# Altium footprint library generic.PcbLib: 12 footprints
Each footprint in its own frame and in the unit in brackets; x right, y up, seen from the top. Pads: shape width x height; smd on the part's side, far side on the other; paste and mask are expansions set on the pad; w line width, h text height; cw(c..) or ccw(c..) is an arc to the next point about the centre after c.
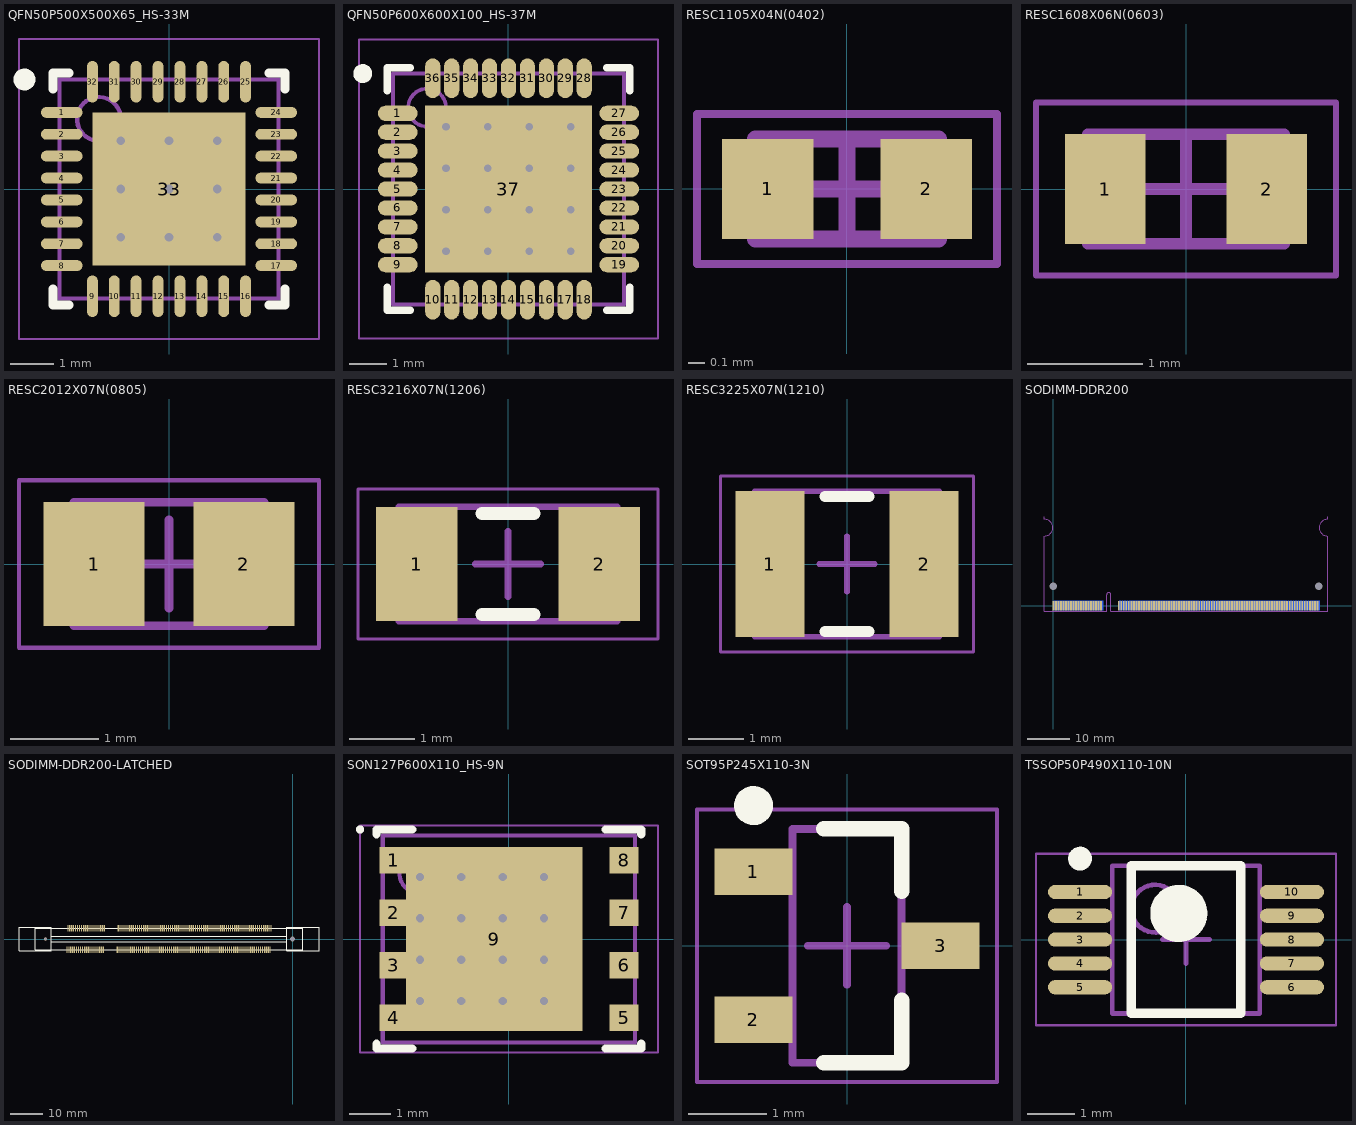
[diagram p0: the footprints below, top view; thin cyan lines are the x and y axes]

## QFN50P500X500X65_HS-33M [mm] "QFN, 32-Leads, Body 5.00x5.00mm, Pitch 0.50mm, Thermal Pad 3.50x3.50mm, IPC Low Density"
height 0.65
pads (33):
  oval 0.95x0.25 smd: 1(-2.45,1.75) 2(-2.45,1.25) 3(-2.45,0.75) 4(-2.45,0.25) 5(-2.45,-0.25) 6(-2.45,-0.75) 7(-2.45,-1.25) 8(-2.45,-1.75) 17(2.45,-1.75) 18(2.45,-1.25) 19(2.45,-0.75) 20(2.45,-0.25) 21(2.45,0.25) 22(2.45,0.75) 23(2.45,1.25) 24(2.45,1.75)
  oval 0.25x0.95 smd: 9(-1.75,-2.45) 10(-1.25,-2.45) 11(-0.75,-2.45) 12(-0.25,-2.45) 13(0.25,-2.45) 14(0.75,-2.45) 15(1.25,-2.45) 16(1.75,-2.45) 25(1.75,2.45) 26(1.25,2.45) 27(0.75,2.45) 28(0.25,2.45) 29(-0.25,2.45) 30(-0.75,2.45) 31(-1.25,2.45) 32(-1.75,2.45)
  rect 3.5x3.5 smd: 33(0,0)
via -1.1,1.1 diameter 0.5 hole 0.2
via 0,1.1 diameter 0.5 hole 0.2
via 1.1,1.1 diameter 0.5 hole 0.2
via -1.1,0 diameter 0.5 hole 0.2
via 0,0 diameter 0.5 hole 0.2
via 1.1,0 diameter 0.5 hole 0.2
via -1.1,-1.1 diameter 0.5 hole 0.2
via 0,-1.1 diameter 0.5 hole 0.2
via 1.1,-1.1 diameter 0.5 hole 0.2
Top Overlay:
  circle w0.25: c-3.3,2.5 r0.125
  lines w0.2: -2.65,-2.275 -2.65,-2.65 -2.275,-2.65 ; -2.65,2.275 -2.65,2.65 -2.275,2.65 ; 2.275,-2.65 2.65,-2.65 2.65,-2.275 ; 2.275,2.65 2.65,2.65 2.65,2.275
Mechanical 13:
  circle w0.1: c-1.6,1.6 r0.5
  lines w0.1: -2.5,-2.5 -2.5,2.5 2.5,2.5 2.5,-2.5 -2.5,-2.5
Mechanical 15:
  lines w0.05: -3.425,-3.425 -3.425,3.425 3.425,3.425 3.425,-3.425 -3.425,-3.425
  lines w0.1: -0.5,0 0.5,0 ; 0,-0.5 0,0.5
3D body "QFN50P500X500X65_HS-33M.step": height 0.65, standoff 0, extent -2.55,-2.55 2.55,2.55

## QFN50P600X600X100_HS-37M [mm] "QFN, 36-Leads, Body 6.00x6.00mm, Pitch 0.50mm, Thermal Pad 4.40x4.40mm, IPC Low Density"
height 1
pads (37):
  oval 1.05x0.4 smd: 1(-2.925,2) 2(-2.925,1.5) 3(-2.925,1) 4(-2.925,0.5) 5(-2.925,0) 6(-2.925,-0.5) 7(-2.925,-1) 8(-2.925,-1.5) 9(-2.925,-2) 19(2.925,-2) 20(2.925,-1.5) 21(2.925,-1) 22(2.925,-0.5) 23(2.925,0) 24(2.925,0.5) 25(2.925,1) 26(2.925,1.5) 27(2.925,2)
  oval 0.4x1.05 smd: 10(-2,-2.925) 11(-1.5,-2.925) 12(-1,-2.925) 13(-0.5,-2.925) 14(0,-2.925) 15(0.5,-2.925) 16(1,-2.925) 17(1.5,-2.925) 18(2,-2.925) 28(2,2.925) 29(1.5,2.925) 30(1,2.925) 31(0.5,2.925) 32(0,2.925) 33(-0.5,2.925) 34(-1,2.925) 35(-1.5,2.925) 36(-2,2.925)
  rect 4.4x4.4 smd: 37(0,0)
via -1.65,1.65 diameter 0.5 hole 0.2
via -0.55,1.65 diameter 0.5 hole 0.2
via 0.55,1.65 diameter 0.5 hole 0.2
via 1.65,1.65 diameter 0.5 hole 0.2
via -1.65,0.55 diameter 0.5 hole 0.2
via -0.55,0.55 diameter 0.5 hole 0.2
via 0.55,0.55 diameter 0.5 hole 0.2
via 1.65,0.55 diameter 0.5 hole 0.2
via -1.65,-0.55 diameter 0.5 hole 0.2
via -0.55,-0.55 diameter 0.5 hole 0.2
via 0.55,-0.55 diameter 0.5 hole 0.2
via 1.65,-0.55 diameter 0.5 hole 0.2
via -1.65,-1.65 diameter 0.5 hole 0.2
via -0.55,-1.65 diameter 0.5 hole 0.2
via 0.55,-1.65 diameter 0.5 hole 0.2
via 1.65,-1.65 diameter 0.5 hole 0.2
Top Overlay:
  circle w0.25: c-3.85,3.05 r0.125
  lines w0.2: -3.2,-2.6 -3.2,-3.2 -2.6,-3.2 ; -3.2,2.6 -3.2,3.2 -2.6,3.2 ; 2.6,-3.2 3.2,-3.2 3.2,-2.6 ; 2.6,3.2 3.2,3.2 3.2,2.6
Mechanical 13:
  circle w0.1: c-2.15,2.15 r0.5
  lines w0.1: -3.05,-3.05 -3.05,3.05 3.05,3.05 3.05,-3.05 -3.05,-3.05
Mechanical 15:
  lines w0.05: -3.95,-3.95 -3.95,3.95 3.95,3.95 3.95,-3.95 -3.95,-3.95
  lines w0.1: -0.5,0 0.5,0 ; 0,-0.5 0,0.5
3D body: height 1, standoff 0.05, extent -3.05,-3.05 3.05,3.05

## RESC1105X04N(0402) [mm] "Chip Resistor, 2-Leads, Body 1.05x0.54mm, IPC Medium Density"
height 0.4
pads (2):
  rect 0.55x0.6 smd: 1(-0.475,0) 2(0.475,0)
Mechanical 13:
  lines w0.1: -0.55,-0.3 0.55,-0.3 0.55,0.3 -0.55,0.3 -0.55,-0.3
Mechanical 15:
  lines w0.05: -0.9,-0.45 0.9,-0.45 0.9,0.45 -0.9,0.45 -0.9,-0.45
  lines w0.1: -0.3,0 0.3,0 ; 0,-0.3 0,0.3
3D body: height 0.4, standoff 0, extent 0.35,-0.3 0.55,0.3
3D body: height 0.4, standoff 0, extent -0.55,-0.3 -0.35,0.3
3D body: height 0.4, standoff 0, extent -0.35,-0.3 0.35,0.3

## RESC1608X06N(0603) [mm] "Chip Resistor, 2-Leads, Body 1.60x0.82mm, IPC Medium Density"
height 0.6
pads (2):
  rect 0.7x0.95 smd: 1(-0.7,0) 2(0.7,0)
Mechanical 13:
  lines w0.1: -0.85,-0.475 0.85,-0.475 0.85,0.475 -0.85,0.475 -0.85,-0.475
Mechanical 15:
  lines w0.05: -1.3,-0.75 1.3,-0.75 1.3,0.75 -1.3,0.75 -1.3,-0.75
  lines w0.1: -0.475,0 0.475,0 ; 0,-0.475 0,0.475
3D body: height 0.6, standoff 0, extent 0.57,-0.475 0.85,0.475
3D body: height 0.6, standoff 0, extent -0.85,-0.475 -0.57,0.475
3D body: height 0.6, standoff 0, extent -0.57,-0.475 0.57,0.475

## RESC2012X07N(0805) [mm] "Chip Resistor, 2-Leads, Body 2.00x1.25mm, IPC Medium Density"
height 0.65
pads (2):
  rect 1.15x1.4 smd: 1(-0.85,0) 2(0.85,0)
Mechanical 13:
  lines w0.1: -1.075,-0.7 1.075,-0.7 1.075,0.7 -1.075,0.7 -1.075,-0.7
Mechanical 15:
  lines w0.05: -1.7,-0.95 1.7,-0.95 1.7,0.95 -1.7,0.95 -1.7,-0.95
  lines w0.1: -0.5,0 0.5,0 ; 0,-0.5 0,0.5
3D body: height 0.65, standoff 0, extent 0.675,-0.7 1.075,0.7
3D body: height 0.65, standoff 0, extent -1.075,-0.7 -0.675,0.7
3D body: height 0.65, standoff 0, extent -0.675,-0.7 0.675,0.7

## RESC3216X07N(1206) [mm] "Chip Resistor, 2-Leads, Body 3.20x1.60mm, IPC Medium Density"
height 0.71
pads (2):
  rect 1.25x1.75 smd: 1(-1.4,0) 2(1.4,0)
Top Overlay:
  lines w0.2: -0.4,-0.775 0.4,-0.775 ; -0.4,0.775 0.4,0.775
Mechanical 13:
  lines w0.1: -1.675,-0.875 1.675,-0.875 1.675,0.875 -1.675,0.875 -1.675,-0.875
Mechanical 15:
  lines w0.05: -2.3,-1.15 2.3,-1.15 2.3,1.15 -2.3,1.15 -2.3,-1.15
  lines w0.1: -0.5,0 0.5,0 ; 0,-0.5 0,0.5
3D body: height 0.71, standoff 0, extent 1.175,-0.875 1.675,0.875
3D body: height 0.71, standoff 0, extent -1.675,-0.875 -1.175,0.875
3D body: height 0.71, standoff 0, extent -1.175,-0.875 1.175,0.875

## RESC3225X07N(1210) [mm] "Chip Resistor, 2-Leads, Body 3.20x2.49mm, IPC Medium Density"
height 0.71
pads (2):
  rect 1.25x2.65 smd: 1(-1.4,0) 2(1.4,0)
Top Overlay:
  lines w0.2: -0.4,-1.225 0.4,-1.225 ; -0.4,1.225 0.4,1.225
Mechanical 13:
  lines w0.1: -1.675,-1.32 -1.675,1.32 1.675,1.32 1.675,-1.32 -1.675,-1.32
Mechanical 15:
  lines w0.05: -2.3,-1.6 -2.3,1.6 2.3,1.6 2.3,-1.6 -2.3,-1.6
  lines w0.1: -0.5,0 0.5,0 ; 0,-0.5 0,0.5
3D body: height 0.71, standoff 0, extent -1.175,-1.32 1.175,1.32
3D body: height 0.71, standoff 0, extent -1.675,-1.32 -1.175,1.32
3D body: height 0.71, standoff 0, extent 1.175,-1.32 1.675,1.32

## SODIMM-DDR200 [mm]
pads (202):
  rect 0.45x2.25 smd: 1(0,0) 3(0.6,0) 5(1.2,0) 7(1.8,0) 9(2.4,0) 11(3,0) 13(3.6,0) 15(4.2,0) 17(4.8,0) 19(5.4,0) 21(6,0) 23(6.6,0) 25(7.2,0) 27(7.8,0) 29(8.4,0) 31(9,0) 33(9.6,0) 35(10.2,0) 37(10.8,0) 39(11.4,0) 41(15.6,0) 43(16.2,0) 45(16.8,0) 47(17.4,0) 49(18,0) 51(18.6,0) 53(19.2,0) 55(19.8,0) 57(20.4,0) 59(21,0) 61(21.6,0) 63(22.2,0) 65(22.8,0) 67(23.4,0) 69(24,0) 71(24.6,0) 73(25.2,0) 75(25.8,0) 77(26.4,0) 79(27,0) 81(27.6,0) 83(28.2,0) 85(28.8,0) 87(29.4,0) 89(30,0) 91(30.6,0) 93(31.2,0) 95(31.8,0) 97(32.4,0) 99(33,0) 101(33.6,0) 103(34.2,0) 105(34.8,0) 107(35.4,0) 109(36,0) 111(36.6,0) 113(37.2,0) 115(37.8,0) 117(38.4,0) 119(39,0) 121(39.6,0) 123(40.2,0) 125(40.8,0) 127(41.4,0) 129(42,0) 131(42.6,0) 133(43.2,0) 135(43.8,0) 137(44.4,0) 139(45,0) 141(45.6,0) 143(46.2,0) 145(46.8,0) 147(47.4,0) 149(48,0) 151(48.6,0) 153(49.2,0) 155(49.8,0) 157(50.4,0) 159(51,0) 161(51.6,0) 163(52.2,0) 165(52.8,0) 167(53.4,0) 169(54,0) 171(54.6,0) 173(55.2,0) 175(55.8,0) 177(56.4,0) 179(57,0) 181(57.6,0) 183(58.2,0) 185(58.8,0) 187(59.4,0) 189(60,0) 191(60.6,0) 193(61.2,0) 195(61.8,0) 197(62.4,0) 199(63,0)
  rect 0.45x2.25 smd far side: 2(0.3,0) 4(0.9,0) 6(1.5,0) 8(2.1,0) 10(2.7,0) 12(3.3,0) 14(3.9,0) 16(4.5,0) 18(5.1,0) 20(5.7,0) 22(6.3,0) 24(6.9,0) 26(7.5,0) 28(8.1,0) 30(8.7,0) 32(9.3,0) 34(9.9,0) 36(10.5,0) 38(11.1,0) 40(11.7,0) 42(15.9,0) 44(16.5,0) 46(17.1,0) 48(17.7,0) 50(18.3,0) 52(18.9,0) 54(19.5,0) 56(20.1,0) 58(20.7,0) 60(21.3,0) 62(21.9,0) 64(22.5,0) 66(23.1,0) 68(23.7,0) 70(24.3,0) 72(24.9,0) 74(25.5,0) 76(26.1,0) 78(26.7,0) 80(27.3,0) 82(27.9,0) 84(28.5,0) 86(29.1,0) 88(29.7,0) 90(30.3,0) 92(30.9,0) 94(31.5,0) 96(32.1,0) 98(32.7,0) 100(33.3,0) 102(33.9,0) 104(34.5,0) 106(35.1,0) 108(35.7,0) 110(36.3,0) 112(36.9,0) 114(37.5,0) 116(38.1,0) 118(38.7,0) 120(39.3,0) 122(39.9,0) 124(40.5,0) 126(41.1,0) 128(41.7,0) 130(42.3,0) 132(42.9,0) 134(43.5,0) 136(44.1,0) 138(44.7,0) 140(45.3,0) 142(45.9,0) 144(46.5,0) 146(47.1,0) 148(47.7,0) 150(48.3,0) 152(48.9,0) 154(49.5,0) 156(50.1,0) 158(50.7,0) 160(51.3,0) 162(51.9,0) 164(52.5,0) 166(53.1,0) 168(53.7,0) 170(54.3,0) 172(54.9,0) 174(55.5,0) 176(56.1,0) 178(56.7,0) 180(57.3,0) 182(57.9,0) 184(58.5,0) 186(59.1,0) 188(59.7,0) 190(60.3,0) 192(60.9,0) 194(61.5,0) 196(62.1,0) 198(62.7,0) 200(63.3,0)
  round 0.8 hole 1.8: 201(0,4.6) 202(63.3,4.6)
Mechanical 1:
  lines w0.254: -2.15,21.25 -2.15,20.6 cw(c-2.15,18.6) -2.15,16.6 -2.15,-1.4 11.4,-1.4 12.7,-1.4 12.7,2.6 cw(c13.2,2.6) 13.7,2.6 13.7,-1.4 65.45,-1.4 65.45,16.6 ; 65.45,20.6 65.45,21.25 ; 65.451,16.6 cw(c65.45,18.6) 65.451,20.6

## SODIMM-DDR200-LATCHED [mm]
pads (202):
  rect 0.35x2 smd: 01(-69.95,-3.3) 02(-69.65,3.3) 03(-69.35,-3.3) 04(-69.05,3.3) 05(-68.75,-3.3) 06(-68.45,3.3) 07(-68.15,-3.3) 08(-67.85,3.3) 09(-67.55,-3.3) 10(-67.25,3.3) 11(-66.95,-3.3) 12(-66.65,3.3) 13(-66.35,-3.3) 14(-66.05,3.3) 15(-65.75,-3.3) 16(-65.45,3.3) 17(-65.15,-3.3) 18(-64.85,3.3) 19(-64.55,-3.3) 20(-64.25,3.3) 21(-63.95,-3.3) 22(-63.65,3.3) 23(-63.35,-3.3) 24(-63.05,3.3) 25(-62.75,-3.3) 26(-62.45,3.3) 27(-62.15,-3.3) 28(-61.85,3.3) 29(-61.55,-3.3) 30(-61.25,3.3) 31(-60.95,-3.3) 32(-60.65,3.3) 33(-60.35,-3.3) 34(-60.05,3.3) 35(-59.75,-3.3) 36(-59.45,3.3) 37(-59.15,-3.3) 38(-58.85,3.3) 39(-58.55,-3.3) 40(-58.25,3.3) 041(-54.35,-3.3) 042(-54.05,3.3) 043(-53.75,-3.3) 044(-53.45,3.3) 045(-53.15,-3.3) 046(-52.85,3.3) 047(-52.55,-3.3) 048(-52.25,3.3) 049(-51.95,-3.3) 050(-51.65,3.3) 051(-51.35,-3.3) 052(-51.05,3.3) 053(-50.75,-3.3) 054(-50.45,3.3) 055(-50.15,-3.3) 056(-49.85,3.3) 057(-49.55,-3.3) 058(-49.25,3.3) 059(-48.95,-3.3) 060(-48.65,3.3) 061(-48.35,-3.3) 062(-48.05,3.3) 063(-47.75,-3.3) 064(-47.45,3.3) 065(-47.15,-3.3) 066(-46.85,3.3) 067(-46.55,-3.3) 068(-46.25,3.3) 069(-45.95,-3.3) 070(-45.65,3.3) 071(-45.35,-3.3) 072(-45.05,3.3) 073(-44.75,-3.3) 074(-44.45,3.3) 075(-44.15,-3.3) 076(-43.85,3.3) 077(-43.55,-3.3) 078(-43.25,3.3) 079(-42.95,-3.3) 080(-42.65,3.3) 081(-42.35,-3.3) 082(-42.05,3.3) 083(-41.75,-3.3) 084(-41.45,3.3) 085(-41.15,-3.3) 086(-40.85,3.3) 087(-40.55,-3.3) 088(-40.25,3.3) 089(-39.95,-3.3) 090(-39.65,3.3) 091(-39.35,-3.3) 092(-39.05,3.3) 093(-38.75,-3.3) 094(-38.45,3.3) 095(-38.15,-3.3) 096(-37.85,3.3) 097(-37.55,-3.3) 098(-37.25,3.3) 099(-36.95,-3.3) 100(-36.65,3.3) 101(-36.35,-3.3) 102(-36.05,3.3) 103(-35.75,-3.3) 104(-35.45,3.3) 105(-35.15,-3.3) 106(-34.85,3.3) 107(-34.55,-3.3) 108(-34.25,3.3) 109(-33.95,-3.3) 110(-33.65,3.3) 111(-33.35,-3.3) 112(-33.05,3.3) 113(-32.75,-3.3) 114(-32.45,3.3) 115(-32.15,-3.3) 116(-31.85,3.3) 117(-31.55,-3.3) 118(-31.25,3.3) 119(-30.95,-3.3) 120(-30.65,3.3) 121(-30.35,-3.3) 122(-30.05,3.3) 123(-29.75,-3.3) 124(-29.45,3.3) 125(-29.15,-3.3) 126(-28.85,3.3) 127(-28.55,-3.3) 128(-28.25,3.3) 129(-27.95,-3.3) 130(-27.65,3.3) 131(-27.35,-3.3) 132(-27.05,3.3) 133(-26.75,-3.3) 134(-26.45,3.3) 135(-26.15,-3.3) 136(-25.85,3.3) 137(-25.55,-3.3) 138(-25.25,3.3) 139(-24.95,-3.3) 140(-24.65,3.3) 141(-24.35,-3.3) 142(-24.05,3.3) 143(-23.75,-3.3) 144(-23.45,3.3) 145(-23.15,-3.3) 146(-22.85,3.3) 147(-22.55,-3.3) 148(-22.25,3.3) 149(-21.95,-3.3) 150(-21.65,3.3) 151(-21.35,-3.3) 152(-21.05,3.3) 153(-20.75,-3.3) 154(-20.45,3.3) 155(-20.15,-3.3) 156(-19.85,3.3) 157(-19.55,-3.3) 158(-19.25,3.3) 159(-18.95,-3.3) 160(-18.65,3.3) 161(-18.35,-3.3) 162(-18.05,3.3) 163(-17.75,-3.3) 164(-17.45,3.3) 165(-17.15,-3.3) 166(-16.85,3.3) 167(-16.55,-3.3) 168(-16.25,3.3) 169(-15.95,-3.3) 170(-15.65,3.3) 171(-15.35,-3.3) 172(-15.05,3.3) 173(-14.75,-3.3) 174(-14.45,3.3) 175(-14.15,-3.3) 176(-13.85,3.3) 177(-13.55,-3.3) 178(-13.25,3.3) 179(-12.95,-3.3) 180(-12.65,3.3) 181(-12.35,-3.3) 182(-12.05,3.3) 183(-11.75,-3.3) 184(-11.45,3.3) 185(-11.15,-3.3) 186(-10.85,3.3) 187(-10.55,-3.3) 188(-10.25,3.3) 189(-9.95,-3.3) 190(-9.65,3.3) 191(-9.35,-3.3) 192(-9.05,3.3) 193(-8.75,-3.3) 194(-8.45,3.3) 195(-8.15,-3.3) 196(-7.85,3.3) 197(-7.55,-3.3) 198(-7.25,3.3) 199(-6.95,-3.3) 200(-6.65,3.3)
  round 0.9 hole 1.05: 201(-76.6,0)
  round 0.9 hole 1.45: 201(0,0)
Top Overlay:
  lines w0.254: -84.8,-3.7 -74.8,-3.7 -74.8,3.7 -84.8,3.7 -84.8,-3.7 ; -79.8,-3.3 3.2,-3.3 3.2,3.3 -79.8,3.3 -79.8,-3.3 ; -74.8,-0.8 -1.8,-0.8 -1.8,0.8 -74.8,0.8 -74.8,0 -74.8,-0.8 ; -1.8,-3.7 8.2,-3.7 8.2,3.7 -1.8,3.7 -1.8,-3.7
3D body: height 15, standoff 0, extent -84.799,-3.699 -74.801,3.699
3D body: height 15, standoff 0, extent -1.799,-3.699 8.199,3.699
3D body: height 13, standoff 0, extent -79.799,-3.299 -74.801,3.299
3D body: height 13, standoff 0, extent -1.799,-3.299 3.199,3.299
3D body: height 7.1, standoff 0, extent -74.799,-3.299 -1.801,3.299
3D body: height 40, standoff 0, extent -74.799,-0.799 -1.801,0.799

## SON127P600X110_HS-9N [mm] "SON, 8-Leads, Body 4.90x6.00mm, Pitch 1.27mm, Thermal Pad 3.82x3.58mm, IPC Medium Density"
height 1.1
pads (9):
  rect 0.7x0.65 smd: 1(-2.785,1.905) 2(-2.785,0.635) 3(-2.785,-0.635) 4(-2.785,-1.905) 5(2.785,-1.905) 6(2.785,-0.635) 7(2.785,0.635) 8(2.785,1.905)
  rect 4.27x4.46 smd paste-1.79: 9(-0.35,0)
via 0.85,-1.5 diameter 0.5 hole 0.2
via -0.15,-1.5 diameter 0.5 hole 0.2
via -1.15,-1.5 diameter 0.5 hole 0.2
via -2.15,-1.5 diameter 0.5 hole 0.2
via 0.85,-0.5 diameter 0.5 hole 0.2
via -0.15,-0.5 diameter 0.5 hole 0.2
via -1.15,-0.5 diameter 0.5 hole 0.2
via -2.15,-0.5 diameter 0.5 hole 0.2
via 0.85,0.5 diameter 0.5 hole 0.2
via -0.15,0.5 diameter 0.5 hole 0.2
via -1.15,0.5 diameter 0.5 hole 0.2
via -2.15,0.5 diameter 0.5 hole 0.2
via 0.85,1.5 diameter 0.5 hole 0.2
via -0.15,1.5 diameter 0.5 hole 0.2
via -1.15,1.5 diameter 0.5 hole 0.2
via -2.15,1.5 diameter 0.5 hole 0.2
Top Overlay:
  circle w0.1: c-3.6,2.65 r0.05
  lines w0.2: -3.2,-2.53 -3.2,-2.65 -2.335,-2.65 ; -3.2,2.53 -3.2,2.65 -2.335,2.65 ; 2.335,-2.65 3.2,-2.65 3.2,-2.53 ; 2.335,2.65 3.2,2.65 3.2,2.53
Top Paste:
  rectangle: 0.045,-1.805 1.035,-0.735
  rectangle: 0.045,-0.535 1.035,0.535
  rectangle: 0.045,0.735 1.035,1.805
  rectangle: -1.145,-1.805 -0.155,-0.735
  rectangle: -1.145,-0.535 -0.155,0.535
  rectangle: -1.145,0.735 -0.155,1.805
  rectangle: -2.335,-1.805 -1.345,-0.735
  rectangle: -2.335,-0.535 -1.345,0.535
  rectangle: -2.335,0.735 -1.345,1.805
Mechanical 13:
  circle w0.1: c-2.15,1.6 r0.5
  lines w0.1: -3.05,-2.5 3.05,-2.5 3.05,2.5 -3.05,2.5 -3.05,-2.5
Mechanical 15:
  lines w0.05: -3.605,-2.75 3.605,-2.75 3.605,2.75 -3.605,2.75 -3.605,-2.75
  lines w0.1: -1.15,0 -0.15,0 ; -0.65,-0.5 -0.65,0.5
3D body: height 1.1, standoff 0.1, extent -3.05,-2.5 3.05,2.5

## SOT95P245X110-3N [mm] "SOT23, 3-Leads, Body 2.90x2.45mm, Pitch 0.95mm, IPC Medium Density"
height 1.1
pads (3):
  rect 1x0.6 smd: 1(-1.2,0.95) 2(-1.2,-0.95) 3(1.2,0)
Top Overlay:
  circle w0.25: c-1.2,1.8 r0.125
  lines w0.2: -0.3,-1.5 0.7,-1.5 0.7,-0.7 ; -0.3,1.5 0.7,1.5 0.7,0.7
Mechanical 13:
  lines w0.1: -0.7,-1.5 -0.7,1.5 0.7,1.5 0.7,-1.5 -0.7,-1.5
Mechanical 15:
  lines w0.05: -1.925,-1.75 -1.925,1.75 1.925,1.75 1.925,-1.75 -1.925,-1.75
  lines w0.1: -0.5,0 0.5,0 ; 0,-0.5 0,0.5
3D body: height 1.1, standoff 0.05, extent -0.7,-1.5 0.7,1.5

## TSSOP50P490X110-10N [mm] "TSSOP, 10-Leads, Body 3.00x3.00mm, Pitch 0.50mm, IPC Medium Density"
height 1.1
pads (10):
  oval 1.35x0.3 smd: 1(-2.225,1) 2(-2.225,0.5) 3(-2.225,0) 4(-2.225,-0.5) 5(-2.225,-1) 6(2.225,-1) 7(2.225,-0.5) 8(2.225,0) 9(2.225,0.5) 10(2.225,1)
Top Overlay:
  circle w0.25: c-2.225,1.7 r0.125
  circle w0.6: c-0.15,0.55 r0.3
  lines w0.2: -1.15,-1.55 -1.15,1.55 1.15,1.55 1.15,-1.55 -1.15,-1.55
Mechanical 13:
  circle w0.1: c-0.65,0.65 r0.5
  lines w0.1: -1.55,-1.55 -1.55,1.55 1.55,1.55 1.55,-1.55 -1.55,-1.55
Mechanical 15:
  lines w0.05: -3.15,-1.8 -3.15,1.8 3.15,1.8 3.15,-1.8 -3.15,-1.8
  lines w0.1: -0.5,0 0.5,0 ; 0,-0.5 0,0.5
3D body: height 1.1, standoff 0.15, extent -1.55,-1.55 1.55,1.55